# EAGLE library part LM3370 (library VNA)
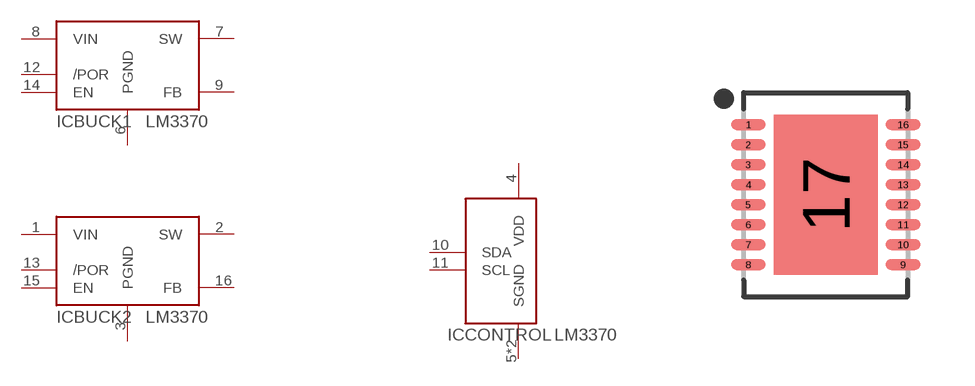
[diagram p2: symbol with the pads of SON50P400X500X80-17T260X400N; footprint SON50P400X500X80-17T260X400N]

Designator prefix IC; gates BUCK1=LM3370_BUCK BUCK2=LM3370_BUCK CONTROL=LM3370_CONTROL

## LM3370  [SON50P400X500X80-17T260X400N]
1  BUCK2:VIN
2  BUCK2:SW
3  BUCK2:PGND
4  CONTROL:VDD
5  CONTROL:SGND
6  BUCK1:PGND
7  BUCK1:SW
8  BUCK1:VIN
9  BUCK1:FB
10  CONTROL:SDA
11  CONTROL:SCL
12  BUCK1:/POR
13  BUCK2:/POR
14  BUCK1:EN
15  BUCK2:EN
16  BUCK2:FB
17  CONTROL:SGND

## Footprint SON50P400X500X80-17T260X400N (pad centres in mm)
16-SON (DFN), 0.50 mm pitch, 5.00 X 4.00 X 0.80 mm body, 4.00 X 2.60 mm thermal pad 16-pin SON (DFN) package with 0.50 mm pitch with body size 5.00 X 4.00 X 0.80 mm and thermal pad size 4.00 X 2.60 mm
smd 0.86 x 0.27: 1 -1.935,1.75; 2 -1.935,1.25; 3 -1.935,0.75; 4 -1.935,0.25; 5 -1.935,-0.25; 6 -1.935,-0.75; 7 -1.935,-1.25; 8 -1.935,-1.75; 9 1.935,-1.75; 10 1.935,-1.25; 11 1.935,-0.75; 12 1.935,-0.25; 13 1.935,0.25; 14 1.935,0.75; 15 1.935,1.25; 16 1.935,1.75
smd 2.6 x 4: 17 0,0